# Altium schematic symbol library eighth_brick_module_6.Schlib: 1 symbol
Pins are listed as number, name and electrical type; pins without a type are passive.

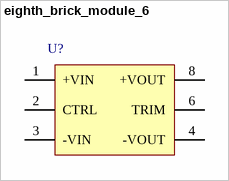
[diagram p0: symbol eighth_brick_module_6]

## eighth_brick_module_6
designator U?  (value not drawn)
Eighth-Brick Power Module, 6-pin
pins: 1 +VIN, 2 CTRL, 3 -VIN, 4 -VOUT, 6 TRIM, 8 +VOUT